# EAGLE library part LM1876 (library lmopamp2)
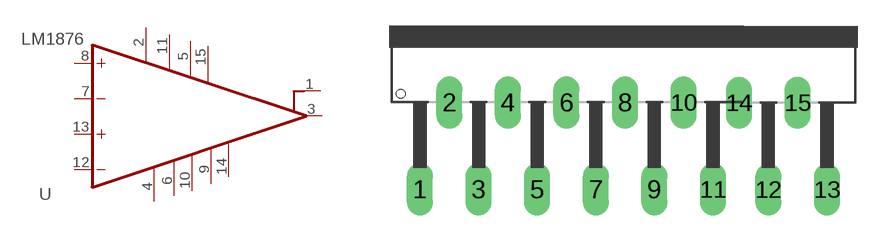
[diagram p2: symbol with the pads of LM1876; footprint LM1876]

Designator prefix -

## LM1876  [LM1876]
1  OUTB  out
2  V+  pwr
3  OUTA  out
4  V-  pwr
5  GNDA  pwr
6  MUTEA  pwr
7  -INA  in
8  +INA  in
9  STANDBAYA  pwr
10  GNDB  pwr
11  MUTEB  pwr
12  -INB  in
13  +INB  in
14  STANDBAYB  pwr
15  V+2  pwr

## Footprint LM1876 (pad centres in mm)
drill 1.016 long: 1 -11.049,-1.905; 2 -9.347,3.15; 3 -7.645,-1.905; 4 -5.944,3.15; 5 -4.242,-1.905; 6 -2.54,3.15; 7 -0.838,-1.905; 8 0.864,3.15; 9 2.565,-1.905; 10 4.267,3.15; 11 5.969,-1.905; 12 9.185,-1.915; 13 12.589,-1.915; 14 7.484,3.14; 15 10.887,3.14